# EAGLE library part W65C816SP (library SamacSys_Parts)
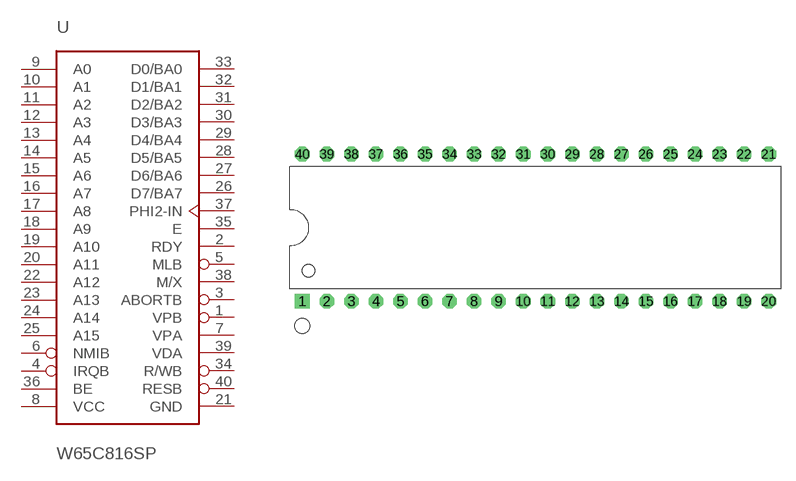
[diagram p255: symbol with the pads of DIP-40; footprint DIP-40]

Designator prefix U

## W65C816SP  [DIP-40]
1  VPB  out
2  RDY
3  ABORTB  in
4  IRQB  in
5  MLB  out
6  NMIB  in
7  VPA  out
8  VCC
9  A0
10  A1
11  A2
12  A3
13  A4
14  A5
15  A6
16  A7
17  A8
18  A9
19  A10
20  A11
21  GND
22  A12
23  A13
24  A14
25  A15
26  D7/BA7
27  D6/BA6
28  D5/BA5
29  D4/BA4
30  D3/BA3
31  D2/BA2
32  D1/BA1
33  D0/BA0
34  R/WB  out
35  E  out
36  BE  in
37  PHI2-IN  in
38  M/X  out
39  VDA  out
40  RESB  in

## Footprint DIP-40 (pad centres in mm)
drill 1 square: 1 -24.13,-7.62
drill 1 octagon: 2 -21.59,-7.62; 3 -19.05,-7.62; 4 -16.51,-7.62; 5 -13.97,-7.62; 6 -11.43,-7.62; 7 -8.89,-7.62; 8 -6.35,-7.62; 9 -3.81,-7.62; 10 -1.27,-7.62; 11 1.27,-7.62; 12 3.81,-7.62; 13 6.35,-7.62; 14 8.89,-7.62; 15 11.43,-7.62; 16 13.97,-7.62; 17 16.51,-7.62; 18 19.05,-7.62; 19 21.59,-7.62; 20 24.13,-7.62; 21 24.13,7.62; 22 21.59,7.62; 23 19.05,7.62; 24 16.51,7.62; 25 13.97,7.62; 26 11.43,7.62; 27 8.89,7.62; 28 6.35,7.62; 29 3.81,7.62; 30 1.27,7.62; 31 -1.27,7.62; 32 -3.81,7.62; 33 -6.35,7.62; 34 -8.89,7.62; 35 -11.43,7.62; 36 -13.97,7.62; 37 -16.51,7.62; 38 -19.05,7.62; 39 -21.59,7.62; 40 -24.13,7.62